# Altium footprint library PcbLib1.PcbLib: 33 footprints (part 2 of 3)
Each footprint in its own frame and in the unit in brackets; x right, y up, seen from the top. Pads: shape width x height; smd on the part's side, far side on the other; paste and mask are expansions set on the pad; w line width, h text height; cw(c..) or ccw(c..) is an arc to the next point about the centre after c.
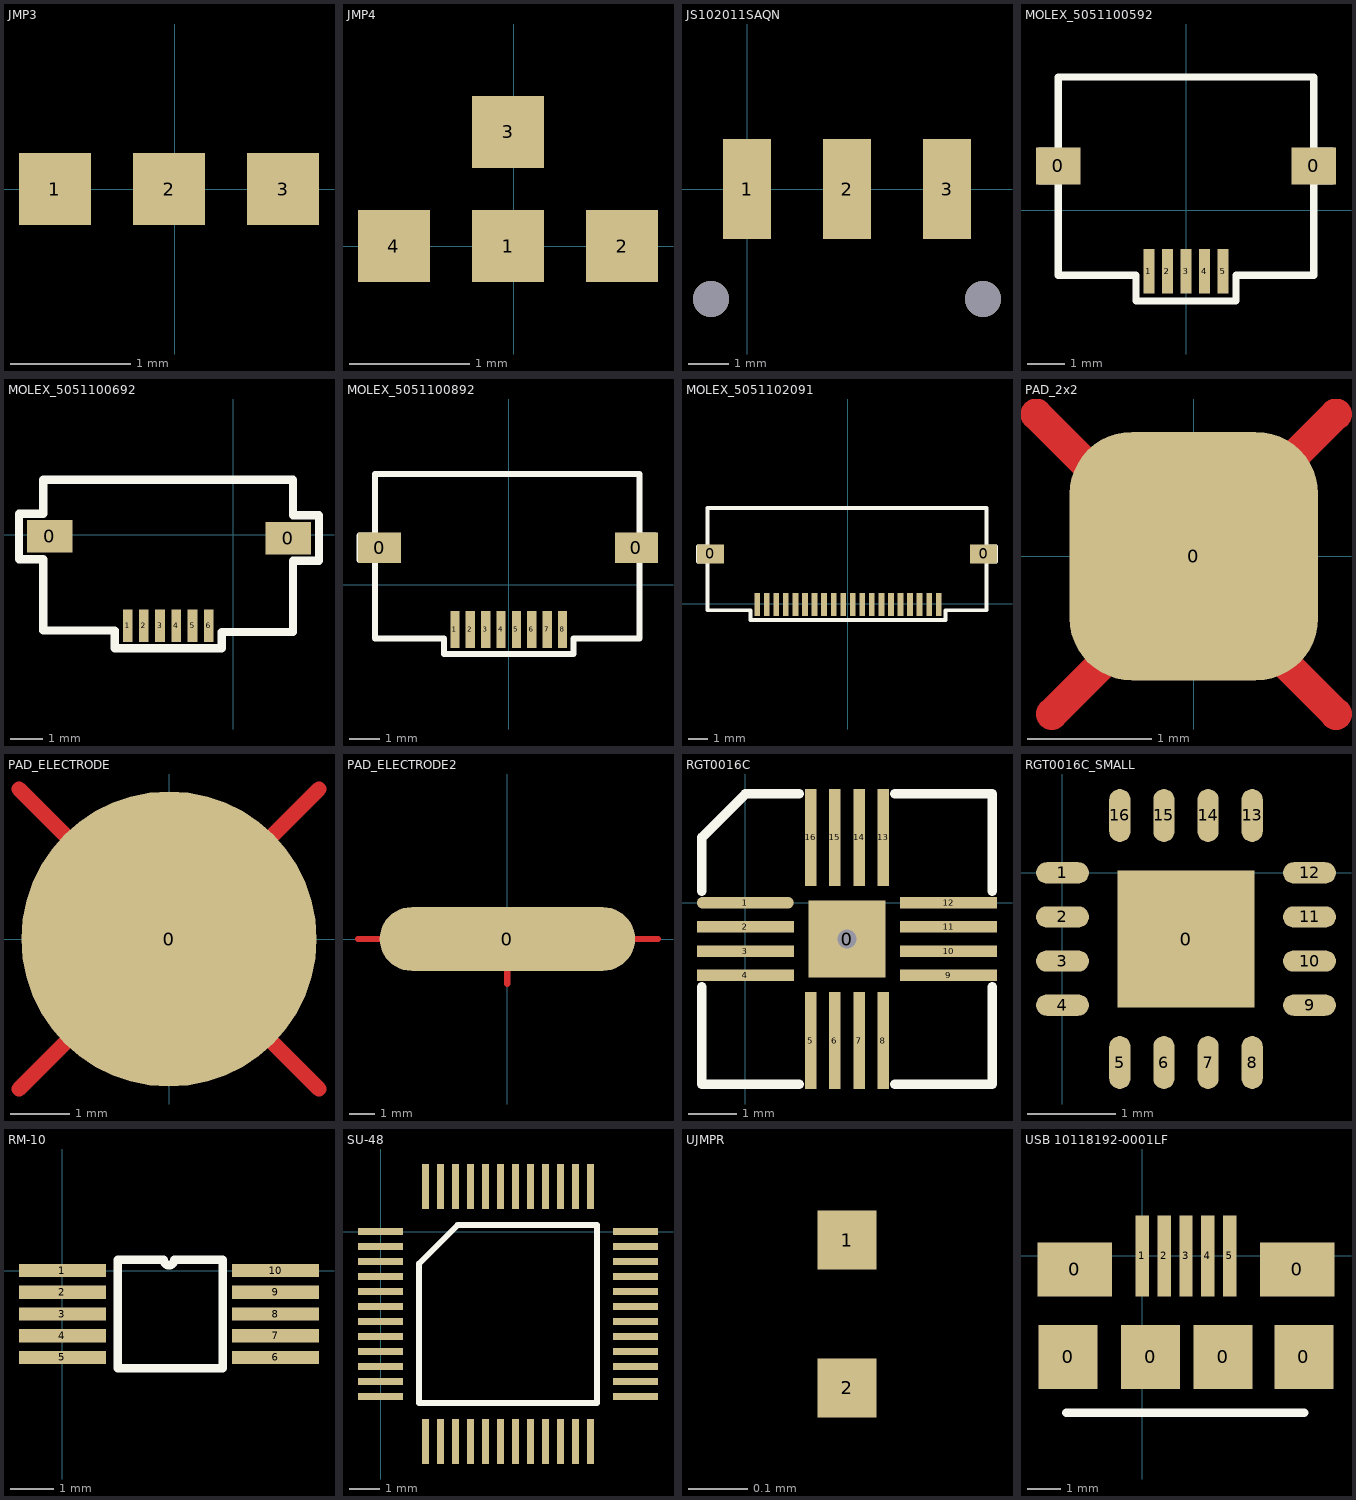
[diagram p1: the footprints below, top view; thin cyan lines are the x and y axes]

## JMP3 [mm]
pads (3):
  rect 0.6x0.6 smd: 1(-1,0) 2(-0.05,0) 3(0.9,0)

## JMP4 [mm]
pads (4):
  rect 0.6x0.6 smd: 1(-0.05,0) 2(0.9,0) 3(-0.05,0.95) 4(-1,0)

## JS102011SAQN [mm]
pads (3):
  rect 1.2x2.5 smd: 1(0,0) 2(2.5,0) 3(5,0)
via 5.9,-2.75 diameter 0.9 hole 0.9
via -0.9,-2.75 diameter 0.9 hole 0.9

## MOLEX_5051100592 [mm] "CONN FCC 8 poles, 0.5mm"
pads (7):
  rect 1.2x1 smd: 0(-3.45,1.2) 0(3.45,1.2)
  rect 0.3x1.2 smd: 1(-1,-1.65) 2(-0.5,-1.65) 3(0,-1.65) 4(0.5,-1.65) 5(1,-1.65)
Top Overlay:
  lines w0.2: -3.45,-1.75 -3.45,0.8 -3.95,0.8 -3.95,1.6 -3.45,1.6 -3.45,3.6 3.45,3.6 3.45,1.6 3.95,1.6 3.95,0.8 3.45,0.8 3.45,-1.75 1.35,-1.75 1.35,-2.45 -1.35,-2.45 -1.35,-1.75 -3.4,-1.75
3D body "5051100592.stp": height 1.88, standoff -0.02, extent -4,-1.8 4,3.5

## MOLEX_5051100692 [mm] "FFC & FPC Connectors 0.5 FPC ZIF BTM CONT EMBT PKG 6Ckt"
pads (8):
  rect 1.4x1 smd: 0(-5.65,-0.05) 0(1.7,-0.1)
  rect 0.3x1 smd: 1(-3.25,-2.8) 2(-2.75,-2.8) 3(-2.25,-2.8) 4(-1.75,-2.8) 5(-1.25,-2.8) 6(-0.75,-2.8)
Top Overlay:
  lines w0.254: -5.9,-0.75 -6.6,-0.75 -6.6,-0.1 -6.6,0.65 -5.85,0.65 -5.85,1.7 -5.15,1.7 1.85,1.7 1.85,0.6 2.65,0.6 2.65,-0.8 1.85,-0.8 1.85,-1.65 1.85,-3 ; -5.85,-0.75 -5.85,-1.75 -5.85,-2.95 -3.65,-2.95 -3.65,-3.5 -0.35,-3.5 -0.35,-3 0.2,-3 1.8,-3
3D body "5051100692.stp": height 1.88, standoff -0.02, extent -6.25,-3 2.25,2.3

## MOLEX_5051100892 [mm] "CONN FCC 8 poles, 0.5mm"
pads (10):
  rect 1.4x1 smd: 0(-4.2,1.2) 0(4.15,1.2)
  rect 0.3x1.2 smd: 1(-1.75,-1.45) 2(-1.25,-1.45) 3(-0.75,-1.45) 4(-0.25,-1.45) 5(0.25,-1.45) 6(0.75,-1.45) 7(1.25,-1.45) 8(1.75,-1.45)
Top Overlay:
  lines w0.2: -4.85,0.8 -4.85,1.6 -4.35,1.6 -4.35,3.6 4.25,3.6 4.25,1.6 4.75,1.6 4.75,0.8 4.25,0.8 4.25,-1.75 2.1,-1.75 2.1,-2.25 -2.1,-2.25 -2.1,-1.75 -4.35,-1.75 -4.35,0.8 -4.85,0.8
3D body "5051100892.stp": height 1.88, standoff -0.02, extent -4.75,-1.65 4.75,3.65

## MOLEX_5051102091 [mm] "CONN FCC 20 poles, 0.5mm"
pads (22):
  rect 1.4x1 smd: 0(-7.2,2.6) 0(7.1,2.6)
  rect 0.3x1.2 smd: 1(-4.75,-0.05) 2(-4.25,-0.05) 3(-3.75,-0.05) 4(-3.25,-0.05) 5(-2.75,-0.05) 6(-2.25,-0.05) 7(-1.75,-0.05) 8(-1.25,-0.05) 9(-0.75,-0.05) 10(-0.25,-0.05) 11(0.25,-0.05) 12(0.75,-0.05) 13(1.25,-0.05) 14(1.75,-0.05) 15(2.25,-0.05) 16(2.75,-0.05) 17(3.25,-0.05) 18(3.75,-0.05) 19(4.25,-0.05) 20(4.75,-0.05)
Top Overlay:
  lines w0.2: -7.85,2.2 -7.85,3 -7.35,3 -7.35,5 7.25,5 7.25,3 7.75,3 7.75,2.2 7.25,2.2 7.25,-0.35 5.1,-0.35 5.1,-0.85 -5.1,-0.85 -5.1,-0.35 -7.35,-0.35 -7.35,2.2 -7.85,2.2
3D body "5051102091.stp": height 1.88, standoff -0.02, extent -7.75,-0.3 7.75,5

## PAD_2x2 [mm]
pads (1):
  rrect50% 2x2 smd: 0(0,0)
Top Layer:
  lines w0.254: -1.27,1.143 -0.127,0 ; -1.143,-1.27 0,-0.127 ; 1.143,-1.27 0,-0.127 ; 1.143,1.143 0,0 ; -0.127,0 0,0 ; -0.127,0 0,0 ; 0,-0.127 0,0 ; 0,-0.127 0,0 ; 0,-0.127 0,0

## PAD_ELECTRODE [mm]
pads (1):
  round 5 smd: 0(0,0)
Top Layer:
  lines w0.254: -2.54,-2.54 0,0 ; -2.54,2.54 0,0 ; 2.54,-2.54 0,0 ; 2.54,2.54 0,0

## PAD_ELECTRODE2 [mm]
pads (1):
  oval 10x2.5 smd: 0(0,0)
Top Layer:
  lines w0.254: -5.85,0 0,0 ; 0,-1.75 0,0 ; 5.9,0 0,0

## RGT0016C [mm]
pads (17):
  rect 1.6x1.6 smd: 0(2.1,-0.75)
  oval 2x0.24 smd: 1(0,0)
  rect 2x0.24 smd: 2(0,-0.5) 3(0,-1) 4(0,-1.5) 9(4.2,-1.5) 10(4.2,-1) 11(4.2,-0.5) 12(4.2,0)
  rect 0.24x2 smd: 5(1.35,-2.85) 6(1.85,-2.85) 7(2.35,-2.85) 8(2.85,-2.85) 13(2.85,1.35) 14(2.35,1.35) 15(1.85,1.35) 16(1.35,1.35)
via 2.1,-0.75 diameter 0.8 hole 0.4
Top Overlay:
  lines w0.2: -0.9,-1.74 -0.9,-3.75 1.11,-3.75 ; -0.9,0.24 -0.9,1.35 0,2.25 1.11,2.25 ; 3.09,-3.75 5.1,-3.75 5.1,-1.74 ; 3.09,2.25 5.1,2.25 5.1,0.24

## RGT0016C_SMALL [mm]
pads (17):
  rect 1.55x1.55 smd: 0(1.4,-0.75)
  oval 0.6x0.24 smd: 1(0,0) 2(0,-0.5) 3(0,-1) 4(0,-1.5) 9(2.8,-1.5) 10(2.8,-1) 11(2.8,-0.5) 12(2.8,0)
  oval 0.24x0.6 smd: 5(0.65,-2.15) 6(1.15,-2.15) 7(1.65,-2.15) 8(2.15,-2.15) 13(2.15,0.65) 14(1.65,0.65) 15(1.15,0.65) 16(0.65,0.65)

## RM-10 [mm]
pads (10):
  rect 2x0.3 smd mask+0.05: 1(0,0) 2(0,-0.5) 3(0,-1) 4(0,-1.5) 5(0,-2) 6(4.9,-2) 7(4.9,-1.5) 8(4.9,-1) 9(4.9,-0.5) 10(4.9,0)
Top Overlay:
  lines w0.2: 1.27,-2.25 3.683,-2.25 3.683,0.25 2.575,0.25 cw(c2.45,0.25) 2.325,0.25 1.27,0.25 1.27,-2.25

## SU-48 [mm]
pads (48):
  rect 1.5x0.22 smd: 1(0,0) 2(0,-0.5) 3(0,-1) 4(0,-1.5) 5(0,-2) 6(0,-2.5) 7(0,-3) 8(0,-3.5) 9(0,-4) 10(0,-4.5) 11(0,-5) 12(0,-5.5) 25(8.5,-5.5) 26(8.5,-5) 27(8.5,-4.5) 28(8.5,-4) 29(8.5,-3.5) 30(8.5,-3) 31(8.5,-2.5) 32(8.5,-2) 33(8.5,-1.5) 34(8.5,-1) 35(8.5,-0.5) 36(8.5,0)
  rect 0.22x1.5 smd: 13(1.5,-7) 14(2,-7) 15(2.5,-7) 16(3,-7) 17(3.5,-7) 18(4,-7) 19(4.5,-7) 20(5,-7) 21(5.5,-7) 22(6,-7) 23(6.5,-7) 24(7,-7) 37(7,1.5) 38(6.5,1.5) 39(6,1.5) 40(5.5,1.5) 41(5,1.5) 42(4.5,1.5) 43(4,1.5) 44(3.5,1.5) 45(3,1.5) 46(2.5,1.5) 47(2,1.5) 48(1.5,1.5)
Top Overlay:
  lines w0.2: 1.285,-5.715 7.215,-5.715 7.215,0.215 2.57,0.215 1.285,-1.07 1.285,-5.715

## UJMPR [mm] "Micro Jumper"
pads (2):
  rect 0.1x0.1 smd: 1(-31.3,19.55) 2(-31.3,19.3)

## USB 10118192-0001LF [mm]
pads (11):
  rect 1.75x1.9 smd: 0(-2.2,-3) 0(0.25,-3) 0(2.4,-3) 0(4.8,-3)
  rect 2.2x1.6 smd: 0(-2,-0.4) 0(4.6,-0.4)
  rect 0.4x2.4 smd: 1(0,0) 2(0.65,0) 3(1.3,0) 4(1.95,0) 5(2.6,0)
Top Overlay:
  lines w0.254: -2.25,-4.65 4.8,-4.65